# Altium footprint library PcbLib1.PcbLib: 39 footprints (part 3 of 3)
Each footprint in its own frame and in the unit in brackets; x right, y up, seen from the top. Pads: shape width x height; smd on the part's side, far side on the other; paste and mask are expansions set on the pad; w line width, h text height; cw(c..) or ccw(c..) is an arc to the next point about the centre after c.
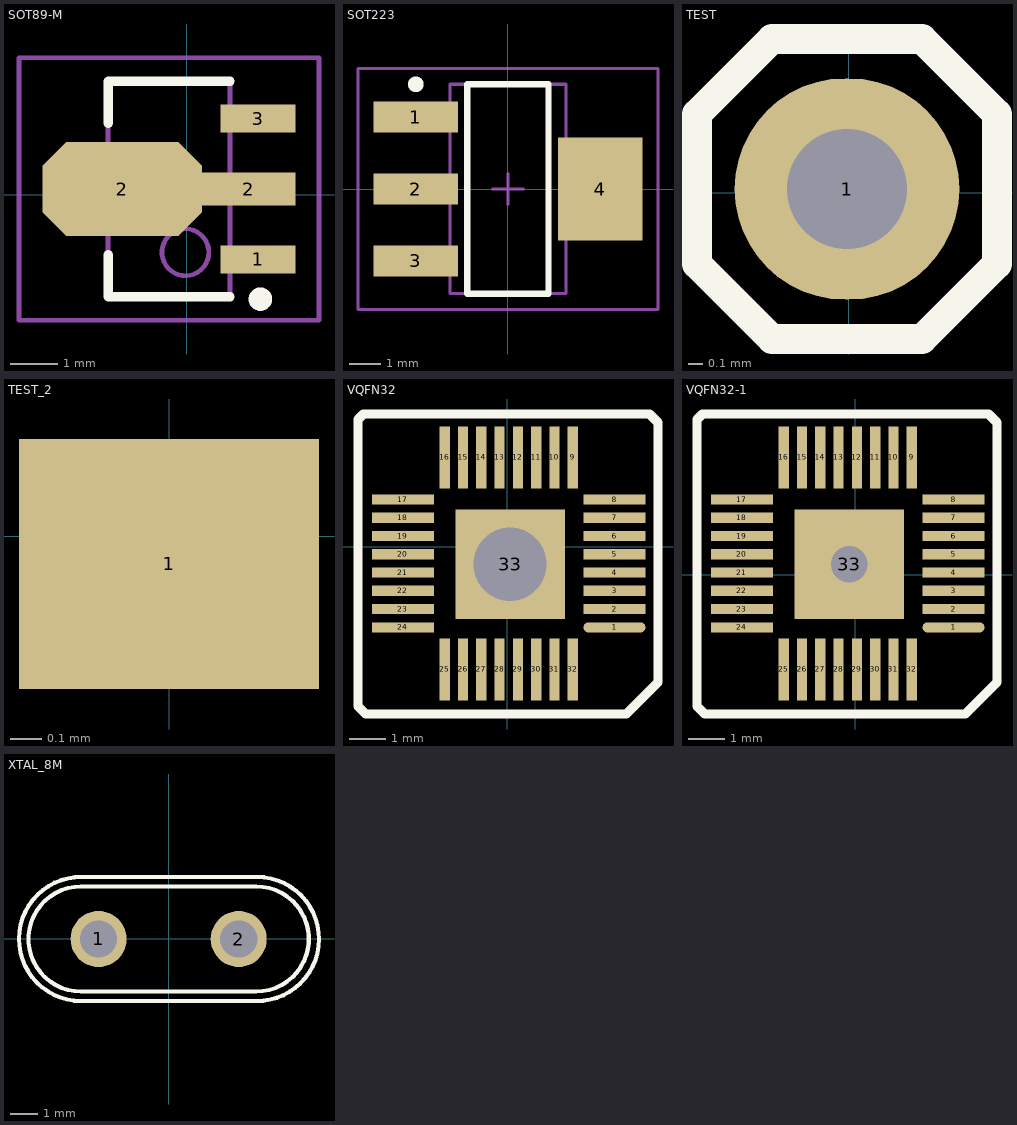
[diagram p2: the footprints below, top view; thin cyan lines are the x and y axes]

## SOT89-M [mm]
pads (4):
  rect 1.6x0.6 smd: 1(1.519,-1.373) 3(1.519,1.627)
  oct 3.4x2 smd: 2(-1.381,0.127)
  rect 2x0.7 smd: 2(1.319,0.127)
Top Overlay:
  circle w0.25: c1.569,-2.223 r0.125
  lines w0.2: -1.681,-1.273 -1.681,-2.173 0.919,-2.173 ; -1.681,1.527 -1.681,2.427 0.919,2.427
Mechanical 13:
  circle w0.1: c-0.031,-1.223 r0.5
  lines w0.1: -1.681,-2.173 0.919,-2.173 0.919,2.427 -1.681,2.427 -1.681,-2.173
Mechanical 15:
  lines w0.1: -0.881,0.127 0.119,0.127 ; -0.381,-0.373 -0.381,0.627 ; -3.581,-2.673 2.819,-2.673 2.819,2.927 -3.581,2.927 -3.581,-2.673
3D body: height 1.6, standoff 0, extent -1.681,-2.173 0.919,2.427

## SOT223 [mm]
pads (4):
  rect 2.7x1 smd: 1(-2.95,2.3) 2(-2.95,0) 3(-2.95,-2.3)
  rect 2.7x3.3 smd: 4(2.95,0)
Top Overlay:
  circle w0.25: c-2.95,3.35 r0.125
  lines w0.2: -1.3,-3.35 -1.3,3.35 1.3,3.35 1.3,-3.35 -1.3,-3.35
Mechanical 13:
  lines w0.1: -1.85,-3.35 -1.85,3.35 1.85,3.35 1.85,-3.35 -1.85,-3.35
Mechanical 15:
  lines w0.1: -0.5,0 0.5,0 ; 0,-0.5 0,0.5 ; -4.8,-3.85 -4.8,3.85 4.8,3.85 4.8,-3.85 -4.8,-3.85
3D body: height 1.7, standoff 0, extent -1.85,-3.35 1.85,3.35

## TEST [mil]
pads (1):
  oval 60x59.06 hole 32: 1(-0.52,1.03)
Top Overlay:
  lines w8: -40.52,-18.97 -20.52,-38.97 19.48,-38.97 39.48,-18.97 39.48,21.03 19.48,41.03 -20.52,41.03 -40.52,21.03 -40.52,-18.97

## TEST_2 [mm]
pads (1):
  rect 0.96x0.8 smd: 1(0,-0.089)

## VQFN32 [mm]
pads (33):
  oval 1.7x0.28 smd: 1(2.94,-2.203)
  rect 1.7x0.28 smd: 2(2.94,-1.703) 3(2.94,-1.203) 4(2.94,-0.703) 5(2.94,-0.203) 6(2.94,0.297) 7(2.94,0.797) 8(2.94,1.297) 17(-2.85,1.297) 18(-2.85,0.797) 19(-2.85,0.297) 20(-2.85,-0.203) 21(-2.85,-0.703) 22(-2.85,-1.203) 23(-2.85,-1.703) 24(-2.85,-2.203)
  rect 0.28x1.7 smd: 9(1.795,2.447) 10(1.295,2.447) 11(0.795,2.447) 12(0.295,2.447) 13(-0.205,2.447) 14(-0.705,2.447) 15(-1.205,2.447) 16(-1.705,2.447) 25(-1.705,-3.353) 26(-1.205,-3.353) 27(-0.705,-3.353) 28(-0.205,-3.353) 29(0.295,-3.353) 30(0.795,-3.353) 31(1.295,-3.353) 32(1.795,-3.353)
  rect 3x3 hole 2: 33(0.082,-0.475)
Top Overlay:
  lines w0.254: 4.13,1.487 4.13,3.407 3.9,3.637 -3.93,3.637 -4.08,3.487 -4.08,-4.363 -3.87,-4.573 3.26,-4.573 4.13,-3.703 4.13,2.507

## VQFN32-1 [mm]
pads (33):
  oval 1.7x0.28 smd: 1(2.686,-1.441)
  rect 1.7x0.28 smd: 2(2.686,-0.941) 3(2.686,-0.441) 4(2.686,0.059) 5(2.686,0.559) 6(2.686,1.059) 7(2.686,1.559) 8(2.686,2.059) 17(-3.104,2.059) 18(-3.104,1.559) 19(-3.104,1.059) 20(-3.104,0.559) 21(-3.104,0.059) 22(-3.104,-0.441) 23(-3.104,-0.941) 24(-3.104,-1.441)
  rect 0.28x1.7 smd: 9(1.541,3.209) 10(1.041,3.209) 11(0.541,3.209) 12(0.041,3.209) 13(-0.459,3.209) 14(-0.959,3.209) 15(-1.459,3.209) 16(-1.959,3.209) 25(-1.959,-2.591) 26(-1.459,-2.591) 27(-0.959,-2.591) 28(-0.459,-2.591) 29(0.041,-2.591) 30(0.541,-2.591) 31(1.041,-2.591) 32(1.541,-2.591)
  rect 3x3 hole 1: 33(-0.172,0.287)
Top Overlay:
  lines w0.254: 3.876,2.249 3.876,4.169 3.646,4.399 -4.184,4.399 -4.334,4.249 -4.334,-3.601 -4.124,-3.811 3.006,-3.811 3.876,-2.941 3.876,3.269

## XTAL_8M [mil]
pads (2):
  round 80 hole 53: 1(-100.02,-0.17) 2(99.98,-0.17)
Top Overlay:
  lines w6: 125.97,88.41 -124.09,88.41 ccw(c-125.02,-0.17) -125.02,-88.75 125.06,-88.74 ccw(c125.98,-0.17) 125.98,88.42 ; -125.02,-75.17 cw(c-125.02,-0.17) -125.02,74.83 124.98,74.83 cw(c124.98,-0.17) 124.98,-75.17 -125.02,-75.17